# EAGLE library part PGA2311 (library balto)
Stereo Audio Volume Control
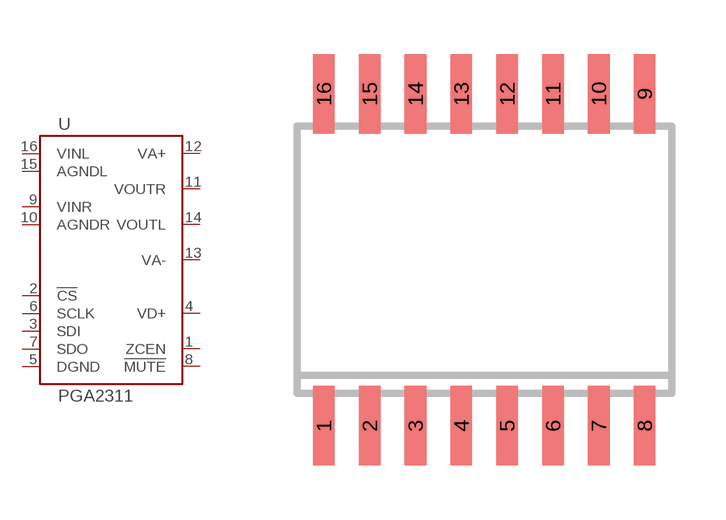
[diagram p32: symbol with the pads of SO16W; footprint SO16W]

Designator prefix U

## PGA2311U  [SO16W]
1  ZCEN
2  !CS
3  SDI
4  VD+
5  DGND
6  SCLK
7  SDO
8  !MUTE
9  VINR
10  AGNDR
11  VOUTR
12  VA+
13  VA-
14  VOUTL
15  AGNDL
16  VINL

## Footprint SO16W (pad centres in mm)
SMALL OUTLINE INTEGRATED CIRCUIT wide body 7.5 mm/JEDEC MS-013AA
smd 0.6 x 2.2: 1 -4.445,-4.6; 2 -3.175,-4.6; 3 -1.905,-4.6; 4 -0.635,-4.6; 5 0.635,-4.6; 6 1.905,-4.6; 7 3.175,-4.6; 8 4.445,-4.6; 9 4.445,4.6; 10 3.175,4.6; 11 1.905,4.6; 12 0.635,4.6; 13 -0.635,4.6; 14 -1.905,4.6; 15 -3.175,4.6; 16 -4.445,4.6